# EAGLE library part MILLI-GRID-44 (library con-molex)
Milli-Grid Pin Header 2.00mm (.079") Pitch
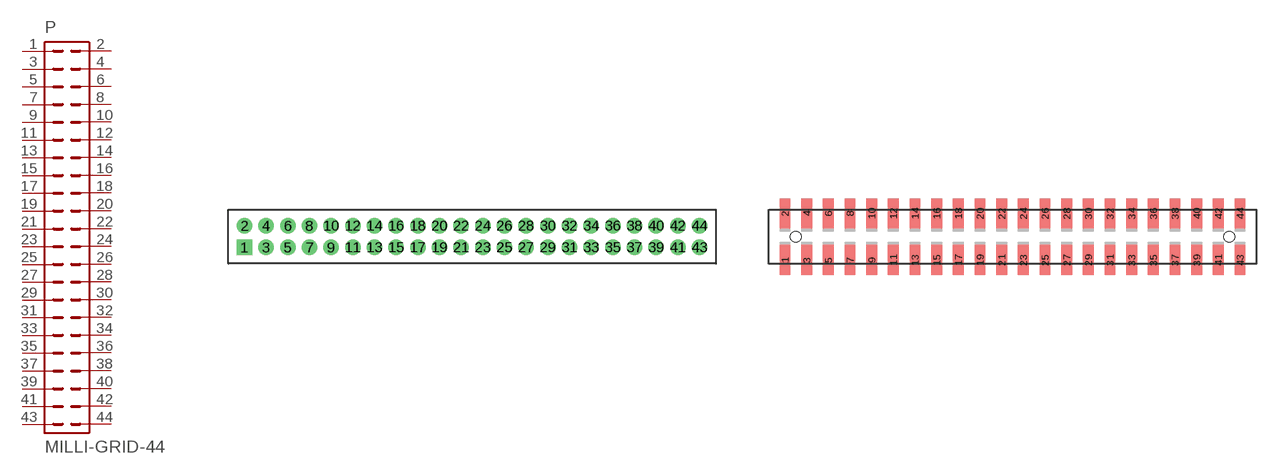
[diagram p70: symbol with the pads of 87758-44; footprints 87758-44, 87759-44]

Designator prefix P

## MILLI-GRID-44-87758  [87758-44]
1  1  pas
2  2  pas
3  3  pas
4  4  pas
5  5  pas
6  6  pas
7  7  pas
8  8  pas
9  9  pas
10  10  pas
11  11  pas
12  12  pas
13  13  pas
14  14  pas
15  15  pas
16  16  pas
17  17  pas
18  18  pas
19  19  pas
20  20  pas
21  21  pas
22  22  pas
23  23  pas
24  24  pas
25  25  pas
26  26  pas
27  27  pas
28  28  pas
29  29  pas
30  30  pas
31  31  pas
32  32  pas
33  33  pas
34  34  pas
35  35  pas
36  36  pas
37  37  pas
38  38  pas
39  39  pas
40  40  pas
41  41  pas
42  42  pas
43  43  pas
44  44  pas

## MILLI-GRID-44-87759  [87759-44]
Pads as for 87758-44

## MILLI-GRID-44-87832  [87832-44]
Pads as for 87758-44

## MILLI-GRID-44-79109  [79109-44]
Pads as for 87758-44

## MILLI-GRID-44-79107  [79107-44]
Pads as for 87758-44

## MILLI-GRID-44-87264  [87264-46]
Pads as for 87758-44

## MILLI-GRID-44-87368  [87368-44]
Pads as for 87758-44

## MILLI-GRID-44-79109-44_M  [79109-44_M]
Pads as for 87758-44

## Footprint 87758-44 (pad centres in mm)
PCB Pin Headers 2.00mm (.079") Pitch Milli-Grid Header, Vertical
drill 0.914 square: 1 -21,-1
drill 0.914: 2 -21,1; 3 -19,-1; 4 -19,1; 5 -17,-1; 6 -17,1; 7 -15,-1; 8 -15,1; 9 -13,-1; 10 -13,1; 11 -11,-1; 12 -11,1; 13 -9,-1; 14 -9,1; 15 -7,-1; 16 -7,1; 17 -5,-1; 18 -5,1; 19 -3,-1; 20 -3,1; 21 -1,-1; 22 -1,1; 23 1,-1; 24 1,1; 25 3,-1; 26 3,1; 27 5,-1; 28 5,1; 29 7,-1; 30 7,1; 31 9,-1; 32 9,1; 33 11,-1; 34 11,1; 35 13,-1; 36 13,1; 37 15,-1; 38 15,1; 39 17,-1; 40 17,1; 41 19,-1; 42 19,1; 43 21,-1; 44 21,1

## Footprint 87759-44 (pad centres in mm)
PCB Pin Headers 2.00mm (.079") Pitch Milli-Grid Header, Vertical SMD
smd 1 x 2.75: 1 -21,-2.15; 2 -21,2.15; 3 -19,-2.15; 4 -19,2.15; 5 -17,-2.15; 6 -17,2.15; 7 -15,-2.15; 8 -15,2.15; 9 -13,-2.15; 10 -13,2.15; 11 -11,-2.15; 12 -11,2.15; 13 -9,-2.15; 14 -9,2.15; 15 -7,-2.15; 16 -7,2.15; 17 -5,-2.15; 18 -5,2.15; 19 -3,-2.15; 20 -3,2.15; 21 -1,-2.15; 22 -1,2.15; 23 1,-2.15; 24 1,2.15; 25 3,-2.15; 26 3,2.15; 27 5,-2.15; 28 5,2.15; 29 7,-2.15; 30 7,2.15; 31 9,-2.15; 32 9,2.15; 33 11,-2.15; 34 11,2.15; 35 13,-2.15; 36 13,2.15; 37 15,-2.15; 38 15,2.15; 39 17,-2.15; 40 17,2.15; 41 19,-2.15; 42 19,2.15; 43 21,-2.15; 44 21,2.15
hole 1 at -20,0
hole 1 at 20,0

## Footprint 87832-44 (pad centres in mm)
PCB Headers 2.00mm (.079") Pitch Milli-Grid Header, Vertical, Shrouded
smd 1 x 2.75: 1 -21,-2.15; 2 -21,2.15; 3 -19,-2.15; 4 -19,2.15; 5 -17,-2.15; 6 -17,2.15; 7 -15,-2.15; 8 -15,2.15; 9 -13,-2.15; 10 -13,2.15; 11 -11,-2.15; 12 -11,2.15; 13 -9,-2.15; 14 -9,2.15; 15 -7,-2.15; 16 -7,2.15; 17 -5,-2.15; 18 -5,2.15; 19 -3,-2.15; 20 -3,2.15; 21 -1,-2.15; 22 -1,2.15; 23 1,-2.15; 24 1,2.15; 25 3,-2.15; 26 3,2.15; 27 5,-2.15; 28 5,2.15; 29 7,-2.15; 30 7,2.15; 31 9,-2.15; 32 9,2.15; 33 11,-2.15; 34 11,2.15; 35 13,-2.15; 36 13,2.15; 37 15,-2.15; 38 15,2.15; 39 17,-2.15; 40 17,2.15; 41 19,-2.15; 42 19,2.15; 43 21,-2.15; 44 21,2.15
hole 1 at -20,0
hole 1 at 20,0

## Footprint 79109-44 (pad centres in mm)
Board-to-Board Receptacal 2.00mm (.079") Pitch Milli-Grid Header, Vertical, Top/Bottom Entry Mates with: 87758, 87759, 87760, 87831, 87832, 87833
smd 1.12 x 1.83: 1 -21,-2.65; 2 -21,2.65; 3 -19,-2.65; 4 -19,2.65; 5 -17,-2.65; 6 -17,2.65; 7 -15,-2.65; 8 -15,2.65; 9 -13,-2.65; 10 -13,2.65; 11 -11,-2.65; 12 -11,2.65; 13 -9,-2.65; 14 -9,2.65; 15 -7,-2.65; 16 -7,2.65; 17 -5,-2.65; 18 -5,2.65; 19 -3,-2.65; 20 -3,2.65; 21 -1,-2.65; 22 -1,2.65; 23 1,-2.65; 24 1,2.65; 25 3,-2.65; 26 3,2.65; 27 5,-2.65; 28 5,2.65; 29 7,-2.65; 30 7,2.65; 31 9,-2.65; 32 9,2.65; 33 11,-2.65; 34 11,2.65; 35 13,-2.65; 36 13,2.65; 37 15,-2.65; 38 15,2.65; 39 17,-2.65; 40 17,2.65; 41 19,-2.65; 42 19,2.65; 43 21,-2.65; 44 21,2.65
hole 0.914 at -20,0
hole 0.914 at -21,1
hole 0.914 at -21,-1
hole 0.914 at -19,-1
hole 0.914 at -19,1
hole 0.914 at -17,-1
hole 0.914 at -17,1
hole 0.914 at 20,0
hole 0.914 at -15,1
hole 0.914 at -15,-1
hole 0.914 at -13,1
hole 0.914 at -13,-1
hole 0.914 at -11,1
hole 0.914 at -11,-1
hole 0.914 at -9,1
hole 0.914 at -9,-1
hole 0.914 at -7,-1
hole 0.914 at -7,1
hole 0.914 at -5,1
hole 0.914 at -5,-1
hole 0.914 at -3,1
hole 0.914 at -3,-1
hole 0.914 at -1,1
hole 0.914 at -1,-1
hole 0.914 at 1,-1
hole 0.914 at 1,1
hole 0.914 at 3,1
hole 0.914 at 5,1
hole 0.914 at 7,1
hole 0.914 at 3,-1
hole 0.914 at 5,-1
hole 0.914 at 7,-1
hole 0.914 at 9,-1
hole 0.914 at 11,-1
hole 0.914 at 13,-1
hole 0.914 at 15,-1
hole 0.914 at 17,-1
hole 0.914 at 9,1
hole 0.914 at 11,1
hole 0.914 at 13,1
hole 0.914 at 15,1
hole 0.914 at 17,1
hole 0.914 at 19,-1
hole 0.914 at 21,-1
hole 0.914 at 19,1
hole 0.914 at 21,1

## Footprint 79107-44 (pad centres in mm)
Board-To-Board Receptacal 2.00mm (.079") Pitch Milli-Grid Header, Vertical, Through-Hole Mates with: 87759, 87762, 87758, 87760
drill 0.914 square: 1 -21,-1
drill 0.914: 2 -21,1; 3 -19,-1; 4 -19,1; 5 -17,-1; 6 -17,1; 7 -15,-1; 8 -15,1; 9 -13,-1; 10 -13,1; 11 -11,-1; 12 -11,1; 13 -9,-1; 14 -9,1; 15 -7,-1; 16 -7,1; 17 -5,-1; 18 -5,1; 19 -3,-1; 20 -3,1; 21 -1,-1; 22 -1,1; 23 1,-1; 24 1,1; 25 3,-1; 26 3,1; 27 5,-1; 28 5,1; 29 7,-1; 30 7,1; 31 9,-1; 32 9,1; 33 11,-1; 34 11,1; 35 13,-1; 36 13,1; 37 15,-1; 38 15,1; 39 17,-1; 40 17,1; 41 19,-1; 42 19,1; 43 21,-1; 44 21,1

## Footprint 87264-46 (pad centres in mm)
Board-To-Board Receptacal 2.00mm (.079") Pitch Milli-Grid Header, Side Entry Mates with 2mm(.079") Mill-Grid Header
drill 0.914 square: 1 -22,-2.25
drill 0.914: 2 -22,2.25; 3 -20,-2.25; 4 -20,2.25; 5 -18,-2.25; 6 -18,2.25; 7 -16,-2.25; 8 -16,2.25; 9 -14,-2.25; 10 -14,2.25; 11 -12,-2.25; 12 -12,2.25; 13 -10,-2.25; 14 -10,2.25; 15 -8,-2.25; 16 -8,2.25; 17 -6,-2.25; 18 -6,2.25; 19 -4,-2.25; 20 -4,2.25; 21 -2,-2.25; 22 -2,2.25; 23 0,-2.25; 24 0,2.25; 25 2,-2.25; 26 2,2.25; 27 4,-2.25; 28 4,2.25; 29 6,-2.25; 30 6,2.25; 31 8,-2.25; 32 8,2.25; 33 10,-2.25; 34 10,2.25; 35 12,-2.25; 36 12,2.25; 37 14,-2.25; 38 14,2.25; 39 16,-2.25; 40 16,2.25; 41 18,-2.25; 42 18,2.25; 43 20,-2.25; 44 20,2.25; 45 22,-2.25; 46 22,2.25

## Footprint 87368-44 (pad centres in mm)
Board-To-Board Receptacal 2.00mm (.079") Pitch Milli-Grid Header, Side Entry SMD Mates with 2mm(.079") Mill-Grid Header
smd 1 x 2.8: 1 -21,-3.1; 2 -21,3.1; 3 -19,-3.1; 4 -19,3.1; 5 -17,-3.1; 6 -17,3.1; 7 -15,-3.1; 8 -15,3.1; 9 -13,-3.1; 10 -13,3.1; 11 -11,-3.1; 12 -11,3.1; 13 -9,-3.1; 14 -9,3.1; 15 -7,-3.1; 16 -7,3.1; 17 -5,-3.1; 18 -5,3.1; 19 -3,-3.1; 20 -3,3.1; 21 -1,-3.1; 22 -1,3.1; 23 1,-3.1; 24 1,3.1; 25 3,-3.1; 26 3,3.1; 27 5,-3.1; 28 5,3.1; 29 7,-3.1; 30 7,3.1; 31 9,-3.1; 32 9,3.1; 33 11,-3.1; 34 11,3.1; 35 13,-3.1; 36 13,3.1; 37 15,-3.1; 38 15,3.1; 39 17,-3.1; 40 17,3.1; 41 19,-3.1; 42 19,3.1; 43 21,-3.1; 44 21,3.1
hole 0.914 at -21,0
hole 0.914 at 0,0

## Footprint 79109-44_M (pad centres in mm)
Board-to-Board Receptacal - MIRRORED PINS! 2.00mm (.079") Pitch Milli-Grid Header, Vertical, Top/Bottom Entry Mates with: 87758, 87759, 87760, 87831, 87832, 87833
smd 1.12 x 1.83: 1 -21,2.65; 2 -21,-2.65; 3 -19,2.65; 4 -19,-2.65; 5 -17,2.65; 6 -17,-2.65; 7 -15,2.65; 8 -15,-2.65; 9 -13,2.65; 10 -13,-2.65; 11 -11,2.65; 12 -11,-2.65; 13 -9,2.65; 14 -9,-2.65; 15 -7,2.65; 16 -7,-2.65; 17 -5,2.65; 18 -5,-2.65; 19 -3,2.65; 20 -3,-2.65; 21 -1,2.65; 22 -1,-2.65; 23 1,2.65; 24 1,-2.65; 25 3,2.65; 26 3,-2.65; 27 5,2.65; 28 5,-2.65; 29 7,2.65; 30 7,-2.65; 31 9,2.65; 32 9,-2.65; 33 11,2.65; 34 11,-2.65; 35 13,2.65; 36 13,-2.65; 37 15,2.65; 38 15,-2.65; 39 17,2.65; 40 17,-2.65; 41 19,2.65; 42 19,-2.65; 43 21,2.65; 44 21,-2.65
hole 0.914 at -20,0
hole 0.914 at -21,1
hole 0.914 at -21,-1
hole 0.914 at -19,-1
hole 0.914 at -19,1
hole 0.914 at -17,-1
hole 0.914 at -17,1
hole 0.914 at 20,0
hole 0.914 at -15,1
hole 0.914 at -15,-1
hole 0.914 at -13,1
hole 0.914 at -13,-1
hole 0.914 at -11,1
hole 0.914 at -11,-1
hole 0.914 at -9,1
hole 0.914 at -9,-1
hole 0.914 at -7,-1
hole 0.914 at -7,1
hole 0.914 at -5,1
hole 0.914 at -5,-1
hole 0.914 at -3,1
hole 0.914 at -3,-1
hole 0.914 at -1,1
hole 0.914 at -1,-1
hole 0.914 at 1,-1
hole 0.914 at 1,1
hole 0.914 at 3,1
hole 0.914 at 5,1
hole 0.914 at 7,1
hole 0.914 at 3,-1
hole 0.914 at 5,-1
hole 0.914 at 7,-1
hole 0.914 at 9,-1
hole 0.914 at 11,-1
hole 0.914 at 13,-1
hole 0.914 at 15,-1
hole 0.914 at 17,-1
hole 0.914 at 9,1
hole 0.914 at 11,1
hole 0.914 at 13,1
hole 0.914 at 15,1
hole 0.914 at 17,1
hole 0.914 at 19,-1
hole 0.914 at 21,-1
hole 0.914 at 19,1
hole 0.914 at 21,1